# Altium integrated library CL05B224KO5NNNC.IntLib: 1 symbol
Pins are listed as number, name and electrical type; pins without a type are passive.

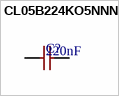
[diagram p0: symbol CL05B224KO5NNNC]

## CL05B224KO5NNNC
designator C?  value 220nF  (hidden comment: CL05B224KO5NNNC)
Multilayer Ceramic Capacitors MLCC - SMD/SMT. 16V 220nF X7R +/-10% 0402 Multilayer Ceramic Capacitors MLCC - SMD/SMT ROHS; Manufacturer: Samsung Electro-Mechanics; Component Type: Capacitors; Design Item ID: CL05B224KO5NNNC; JLCPCB Part #: C16772; Manufacturer Part Number: CL05B224KO5NNNC
footprint CL05B224KO5NNNC (C0402)
pins: 1, 2